# Altium footprint library LED RED THT 5mm.PcbLib: 1 footprints
Each footprint in its own frame and in the unit in brackets; x right, y up, seen from the top. Pads: shape width x height; smd on the part's side, far side on the other; paste and mask are expansions set on the pad; w line width, h text height; cw(c..) or ccw(c..) is an arc to the next point about the centre after c.
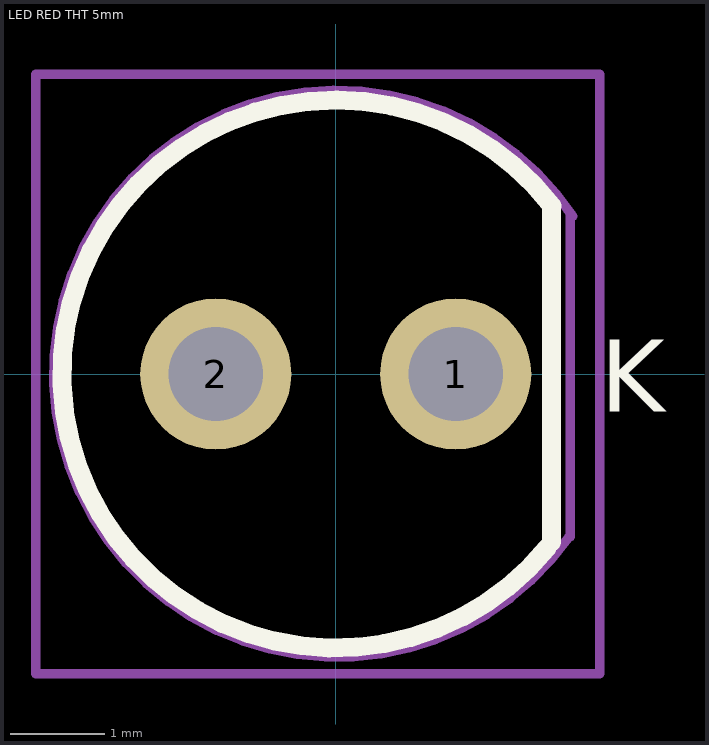
[diagram p0: the footprint, top view; thin cyan lines are the x and y axes]

## LED RED THT 5mm [mm] "LED RED THT 5mm"
pads (2):
  round 1.6 hole 1: 1(1.27,0) 2(-1.27,0)
Top Overlay:
  lines w0.2: 2.239,-1.844 cw(c0,0) 2.289,1.78 ; 2.286,-1.778 2.286,1.778
  text "K" at 2.8,-0.4 h0.76
Mechanical 1:
  lines w0.1: 2.46,-1.735 cw(c0.014,0.003) 2.508,1.671 ; 2.482,-1.725 2.482,1.671 ; -3.175,-3.175 2.794,-3.175 2.794,3.175 -3.175,3.175 -3.175,-3.175
  text ".Designator" at -0.6,0.647 h2
Mechanical 15:
  text "+" at -0.666,-1 h2
3D body "LED 5mm Red.step": height 12.3, standoff -2, extent -2.788,-2.8 2.5,2.8